# Altium schematic symbol library MyLib.SchLib: 8 symbols
Pins are listed as number, name and electrical type; pins without a type are passive.

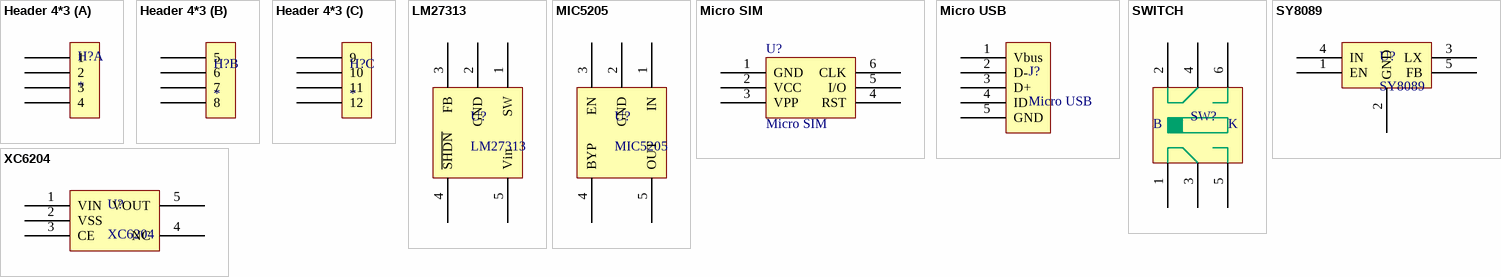
[diagram p0: symbols Header 4*3 to XC6204]

## Header 4*3
designator H?
4排3列插针
footprint Header 4*3
part A pins: 1, 2, 3, 4
part B pins: 5, 6, 7, 8
part C pins: 9, 10, 11, 12

## LM27313
designator U?
DC-DC, 1.6 MHz升压转换器
pins: 1 SW, 2 GND, 3 FB, 4 ~{SHDN}, 5 Vin

## MIC5205
designator U?
低压差线性稳压(LDO)
pins: 1 IN, 2 GND, 3 EN, 4 BYP, 5 OUT

## Micro SIM
designator U?
footprint Micro SIM (6P 自弹式)
pins: 1 GND, 2 VCC, 3 VPP, 4 RST, 5 I/O, 6 CLK

## Micro USB
designator J?
micro usb 母座
footprint Micro USB (micro usb 母座)
pins: 1 Vbus, 2 D-, 3 D+, 4 ID, 5 GND

## SWITCH
designator SW?
小型拨动开关
pins: 1, 2, 3, 4, 5, 6
text: B; K

## SY8089
designator U?
DC-DC regulator IC  capable of delivering up to 2A output current.
pins: 1 EN, 2 GND, 3 LX, 4 IN, 5 FB

## XC6204
designator U?
LDO
pins: 1 VIN, 2 VSS, 3 CE, 4 NC, 5 VOUT